# Altium integrated library 4700uf_50V.IntLib: 1 symbol
Pins are listed as number, name and electrical type; pins without a type are passive.

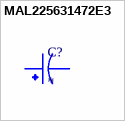
[diagram p0: symbol MAL225631472E3]

## MAL225631472E3
designator C?
MP: MAL225631472E3; Package: None; Price: None; Value: *; Availability: Unavailable
footprint CAP_MAL225631472E3
pins: 1, 2